# Altium footprint library Connector#csv.PcbLib: 20 footprints (part 1 of 2)
Each footprint in its own frame and in the unit in brackets; x right, y up, seen from the top. Pads: shape width x height; smd on the part's side, far side on the other; paste and mask are expansions set on the pad; w line width, h text height; cw(c..) or ccw(c..) is an arc to the next point about the centre after c.
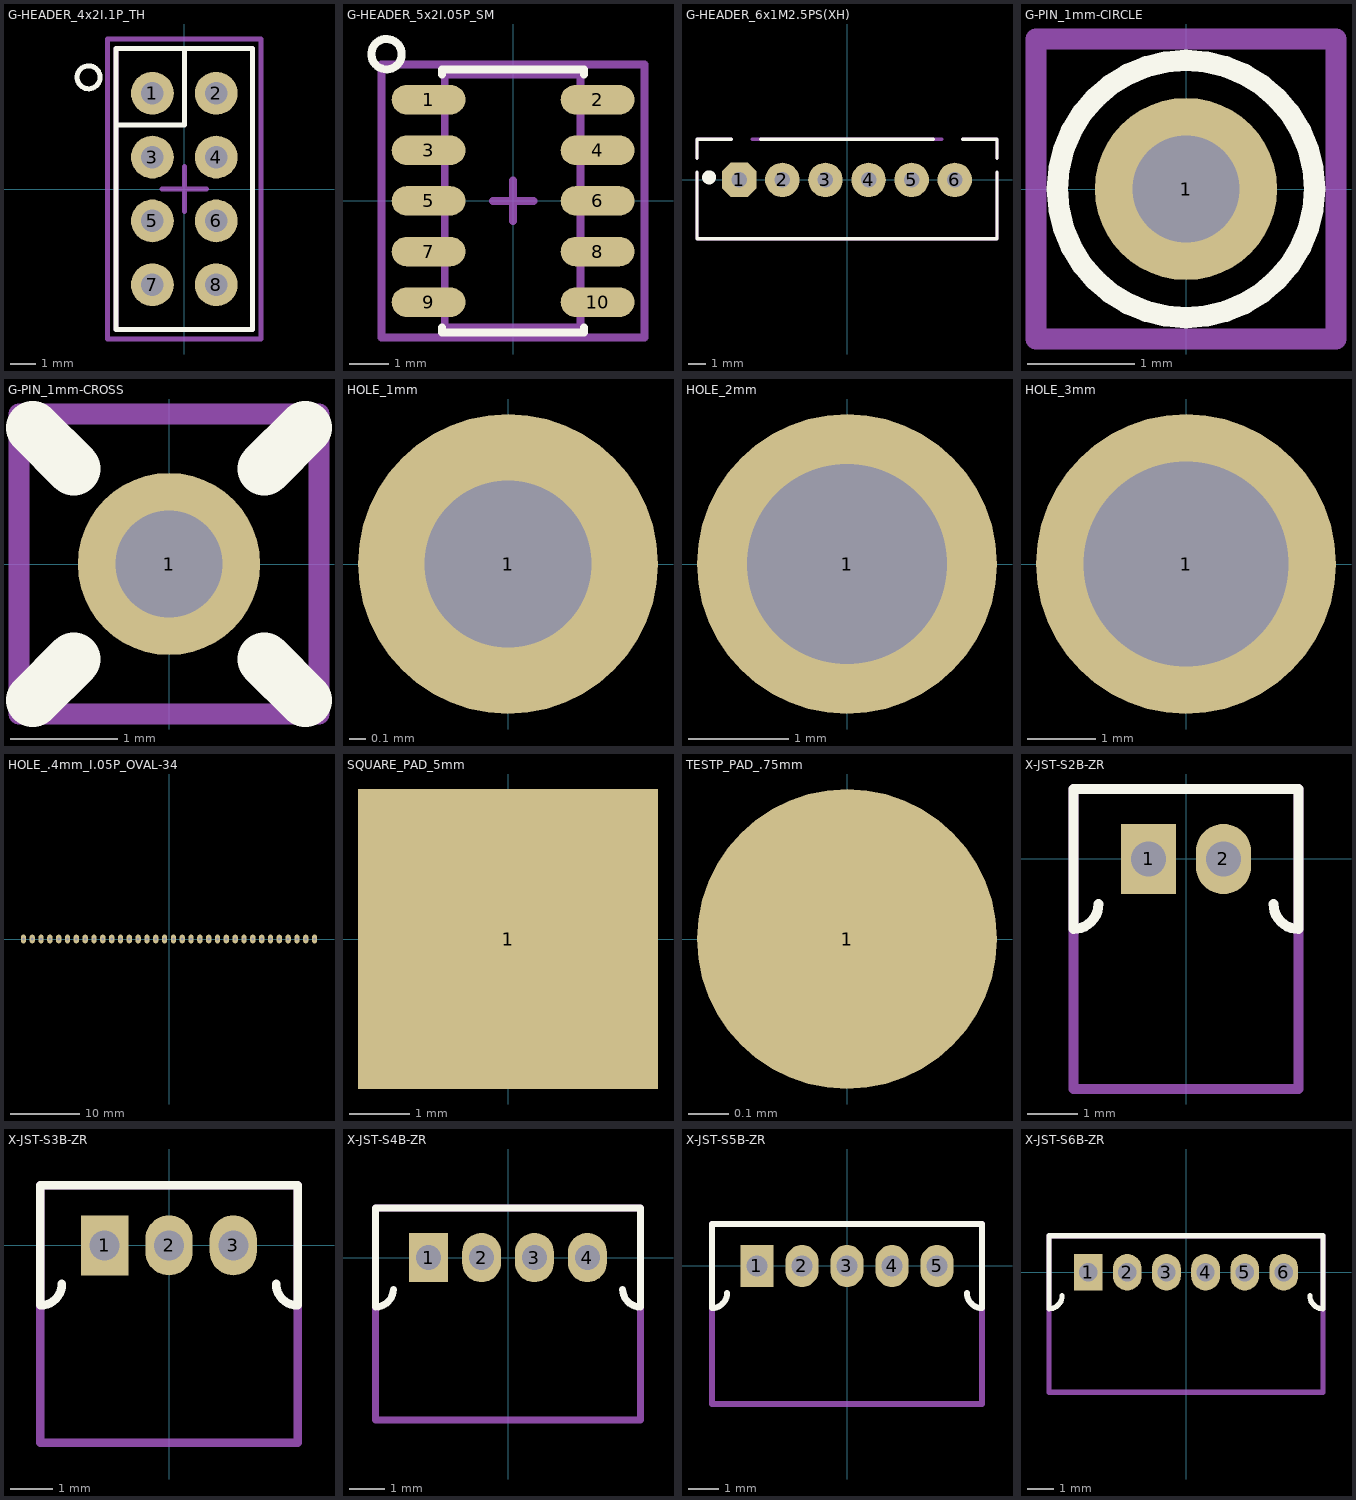
[diagram p0: the footprints below, top view; thin cyan lines are the x and y axes]

## G-HEADER_4x2I.1P_TH [mm] "Header 4x2, 100 mil Pitch, Non polarized"
height 8.5
pads (8):
  round 1.7 hole 0.9: 1(-1.27,3.81) 2(1.27,3.81) 3(-1.27,1.27) 4(1.27,1.27) 5(-1.27,-1.27) 6(1.27,-1.27) 7(-1.27,-3.81) 8(1.27,-3.81)
Top Overlay:
  circle w0.2: c-3.81,4.445 r0.458
  lines w0.2: -2.718,2.54 0,2.54 0,5.588 ; -2.718,-5.588 -2.718,5.588 2.718,5.588 2.718,-5.588 -2.718,-5.588
Mechanical 13:
  lines w0.2: -2.718,-5.588 2.718,-5.588 2.718,5.588 -2.718,5.588 -2.718,-5.588
Mechanical 15:
  lines w0.2: -0.889,0 0.889,0 ; 0,-0.889 0,0.889 ; -3.048,-5.969 3.048,-5.969 3.048,5.969 -3.048,5.969 -3.048,-5.969
3D body: height 8.5, standoff 0, extent -2.717,-5.587 2.717,5.587

## G-HEADER_5x2I.05P_SM [mm] "Header; 5x2 .05'' Pitch, SMD"
height 5
pads (10):
  oval 1.85x0.74 smd: 1(-2.121,2.54) 2(2.121,2.54) 3(-2.121,1.27) 4(2.121,1.27) 5(-2.121,0) 6(2.121,0) 7(-2.121,-1.27) 8(2.121,-1.27) 9(-2.121,-2.54) 10(2.121,-2.54)
Top Overlay:
  circle w0.2: c-3.175,3.683 r0.381
  lines w0.2: -1.778,-3.175 -1.778,-3.302 1.778,-3.302 1.778,-3.175 ; -1.778,3.175 -1.778,3.302 1.778,3.302 1.778,3.175
Mechanical 13:
  lines w0.2: -1.714,-3.175 -1.714,3.175 1.689,3.175 1.689,-3.175 -1.714,-3.175
Mechanical 15:
  lines w0.2: -0.508,0 0.508,0 ; 0,-0.508 0,0.508 ; -3.302,-3.429 3.302,-3.429 3.302,3.429 -3.302,3.429 -3.302,-3.429
3D body: height 4.48, standoff -0.02, extent -2.706,-3.175 2.794,3.175

## G-HEADER_6x1M2.5PS(XH) [mm] "CONN HEADER XH TOP 6POS 2.5MM SHROUDED"
height 7
pads (6):
  oct 2x2 hole 0.9: 1(-6.25,0)
  round 2 hole 0.9: 2(-3.75,0) 3(-1.25,0) 4(1.25,0) 5(3.75,0) 6(6.25,0)
Top Overlay:
  circle w0.4: c-8,0.15 r0.206
  lines w0.2: -8.7,0.45 -8.7,-3.4 8.7,-3.4 8.7,0.45 ; -8.7,1.25 -8.7,2.35 -6.7,2.35 ; -5,2.35 5,2.35 ; 6.7,2.35 8.7,2.35 8.7,1.25
Mechanical 1:
  lines w0.2: -8.7,0.45 -8.7,-3.4 8.7,-3.4 8.7,0.45 ; -8.7,1.25 -8.7,2.35 -6.7,2.35 ; -5.5,2.35 5.5,2.35 ; 6.7,2.35 8.7,2.35 8.7,1.25
3D body: height 7, standoff -3.4, extent -8.7,-3.4 8.7,2.35

## G-PIN_1mm-CIRCLE [mm]
height 4.5
pads (1):
  round 1.7 hole 1: 1(0,0)
Top Overlay:
  circle w0.2: c0,0 r1.2
Mechanical 13:
  circle w0.2: c0,0 r0.5
Mechanical 15:
  lines w0.2: -0.4,0 0.4,0 ; 0,-0.4 0,0.4 ; -1.4,-1.4 1.4,-1.4 1.4,1.4 -1.4,1.4 -1.4,-1.4
3D body: height 4.5, standoff 0, extent -0.496,-0.499 0.5,0.499

## G-PIN_1mm-CROSS [mm] "Generic pin, 1.5 mm"
height 4.5
pads (1):
  round 1.7 hole 1: 1(0,0)
Top Overlay:
  lines w0.5: -1.27,-1.27 -0.889,-0.889 ; -1.27,1.27 -0.889,0.889 ; 0.889,-0.889 1.27,-1.27 ; 0.889,0.889 1.27,1.27
Mechanical 15:
  lines w0.2: -1.4,-1.4 -1.4,1.4 1.4,1.4 1.4,-1.4 -1.4,-1.4
3D body: height 4.5, standoff 0, extent -0.496,-0.499 0.5,0.499

## HOLE_1mm [mm]
pads (1):
  round 1.8 hole 1: 1(0,0)

## HOLE_2mm [mm]
pads (1):
  round 3 hole 2: 1(0,0)

## HOLE_3mm [mm]
pads (1):
  round 4.4 hole 3: 1(0,0)

## HOLE_.4mm_I.05P_OVAL-34 [mm] "34 oval pads, 4mm hole, 50 mil pitch"
pads (34):
  oval 0.762x1.27 hole 0.4: 1(-20.955,0) 2(-19.685,0) 3(-18.415,0) 4(-17.145,0) 5(-15.875,0) 6(-14.605,0) 7(-13.335,0) 8(-12.065,0) 9(-10.795,0) 10(-9.525,0) 11(-8.255,0) 12(-6.985,0) 13(-5.715,0) 14(-4.445,0) 15(-3.175,0) 16(-1.905,0) 17(-0.635,0) 18(0.635,0) 19(1.905,0) 20(3.175,0) 21(4.445,0) 22(5.715,0) 23(6.985,0) 24(8.255,0) 25(9.525,0) 26(10.795,0) 27(12.065,0) 28(13.335,0) 29(14.605,0) 30(15.875,0) 31(17.145,0) 32(18.415,0) 33(19.685,0) 34(20.955,0)

## SQUARE_PAD_5mm [mm]
pads (1):
  rect 5x5 smd: 1(0,0)

## TESTP_PAD_.75mm [mm]
pads (1):
  round 0.75 smd: 1(0,0)

## X-JST-S2B-ZR [mm] "Header, 2 pos, 1.5mm pitch, Side Entry, TH"
height 3.7
pads (2):
  rect 1.1x1.4 hole 0.7: 1(-0.75,0)
  oval 1.1x1.4 hole 0.7: 2(0.75,0)
Top Overlay:
  lines w0.2: -1.75,-0.9 cw(c-2.25,-0.9) -2.25,-1.4 -2.25,1.4 2.25,1.4 2.25,-1.4 cw(c2.25,-0.9) 1.75,-0.9
Bottom Overlay:
  circle w0.4: c-2.1,0.65 r0.25
  lines w0.2: -2.1,1 0.95,1 ; 0.935,1 cw(c0.935,0.273) 1.662,0.273
Mechanical 13:
  lines w0.2: -2.25,-4.6 -2.25,1.4 2.25,1.4 2.25,-4.6 -2.25,-4.6
3D body: height 3.7, standoff -2.7, extent -2.25,-4.6 2.25,1.4

## X-JST-S3B-ZR [mm] "Header, 3 pos, 1.5mm pitch, Side Entry, TH"
height 3.7
pads (3):
  rect 1.1x1.4 hole 0.7: 1(-1.5,0)
  oval 1.1x1.4 hole 0.7: 2(0,0) 3(1.5,0)
Top Overlay:
  lines w0.2: -2.5,-0.9 cw(c-3,-0.9) -3,-1.4 -3,1.4 3,1.4 3,-1.4 cw(c3,-0.9) 2.5,-0.9
Bottom Overlay:
  circle w0.4: c-2.85,0.65 r0.25
  lines w0.2: -2.85,1 1.685,1 cw(c1.685,0.273) 2.412,0.273
Mechanical 13:
  lines w0.2: -3,-4.6 3,-4.6 3,1.4 -3,1.4 -3,-4.6
3D body: height 3.7, standoff -2.7, extent -3,-4.6 3,1.4

## X-JST-S4B-ZR [mm] "Header, 4 pos, 1.5mm pitch, Side Entry, TH"
height 3.7
pads (4):
  rect 1.1x1.4 hole 0.7: 1(-2.25,0)
  oval 1.1x1.4 hole 0.7: 2(-0.75,0) 3(0.75,0) 4(2.25,0)
Top Overlay:
  lines w0.2: -3.25,-0.9 cw(c-3.75,-0.9) -3.75,-1.4 -3.75,1.4 3.75,1.4 3.75,-1.4 cw(c3.75,-0.9) 3.25,-0.9
Bottom Overlay:
  circle w0.4: c-3.6,0.65 r0.25
  lines w0.2: -3.6,1 2.45,1 ; 2.435,1 cw(c2.435,0.273) 3.162,0.273
Mechanical 13:
  lines w0.2: -3.75,-4.6 -3.75,1.4 3.75,1.4 3.75,-4.6 -3.75,-4.6
3D body: height 3.7, standoff -2.7, extent -3.75,-4.6 3.75,1.4

## X-JST-S5B-ZR [mm] "Header, 5 pos, 1.5mm pitch, Side Entry, TH"
height 3.7
pads (5):
  rect 1.1x1.4 hole 0.7: 1(-3,0)
  oval 1.1x1.4 hole 0.7: 2(-1.5,0) 3(0,0) 4(1.5,0) 5(3,0)
Top Overlay:
  lines w0.2: -4,-0.9 cw(c-4.5,-0.9) -4.5,-1.4 -4.5,1.4 4.5,1.4 4.5,-1.4 cw(c4.5,-0.9) 4,-0.9
Bottom Overlay:
  circle w0.4: c-4.35,0.65 r0.25
  lines w0.2: -4.35,1 3.15,1 ; 3.185,1 cw(c3.185,0.273) 3.912,0.273
Mechanical 13:
  lines w0.2: -4.5,-4.6 -4.5,1.4 4.5,1.4 4.5,-4.6 -4.5,-4.6
3D body: height 3.7, standoff -2.7, extent -4.5,-4.6 4.5,1.4

## X-JST-S6B-ZR [mm] "Header, 6 pos, 1.5mm pitch, Side Entry, TH"
height 3.7
pads (6):
  rect 1.1x1.4 hole 0.7: 1(-3.75,0)
  oval 1.1x1.4 hole 0.7: 2(-2.25,0) 3(-0.75,0) 4(0.75,0) 5(2.25,0) 6(3.75,0)
Top Overlay:
  lines w0.2: -4.75,-0.9 cw(c-5.25,-0.9) -5.25,-1.4 -5.25,1.4 5.25,1.4 5.25,-1.4 cw(c5.25,-0.9) 4.75,-0.9
Bottom Overlay:
  circle w0.4: c-5.1,0.65 r0.25
  lines w0.2: -5.1,1 3.935,1 cw(c3.935,0.273) 4.662,0.273
Mechanical 13:
  lines w0.2: -5.25,-4.6 -5.25,1.4 5.25,1.4 5.25,-4.6 -5.25,-4.6
3D body: height 3.7, standoff -2.7, extent -5.25,-4.6 5.25,1.4